# Altium integrated library DevBoard.IntLib: 15 symbols
Pins are listed as number, name and electrical type; pins without a type are passive.

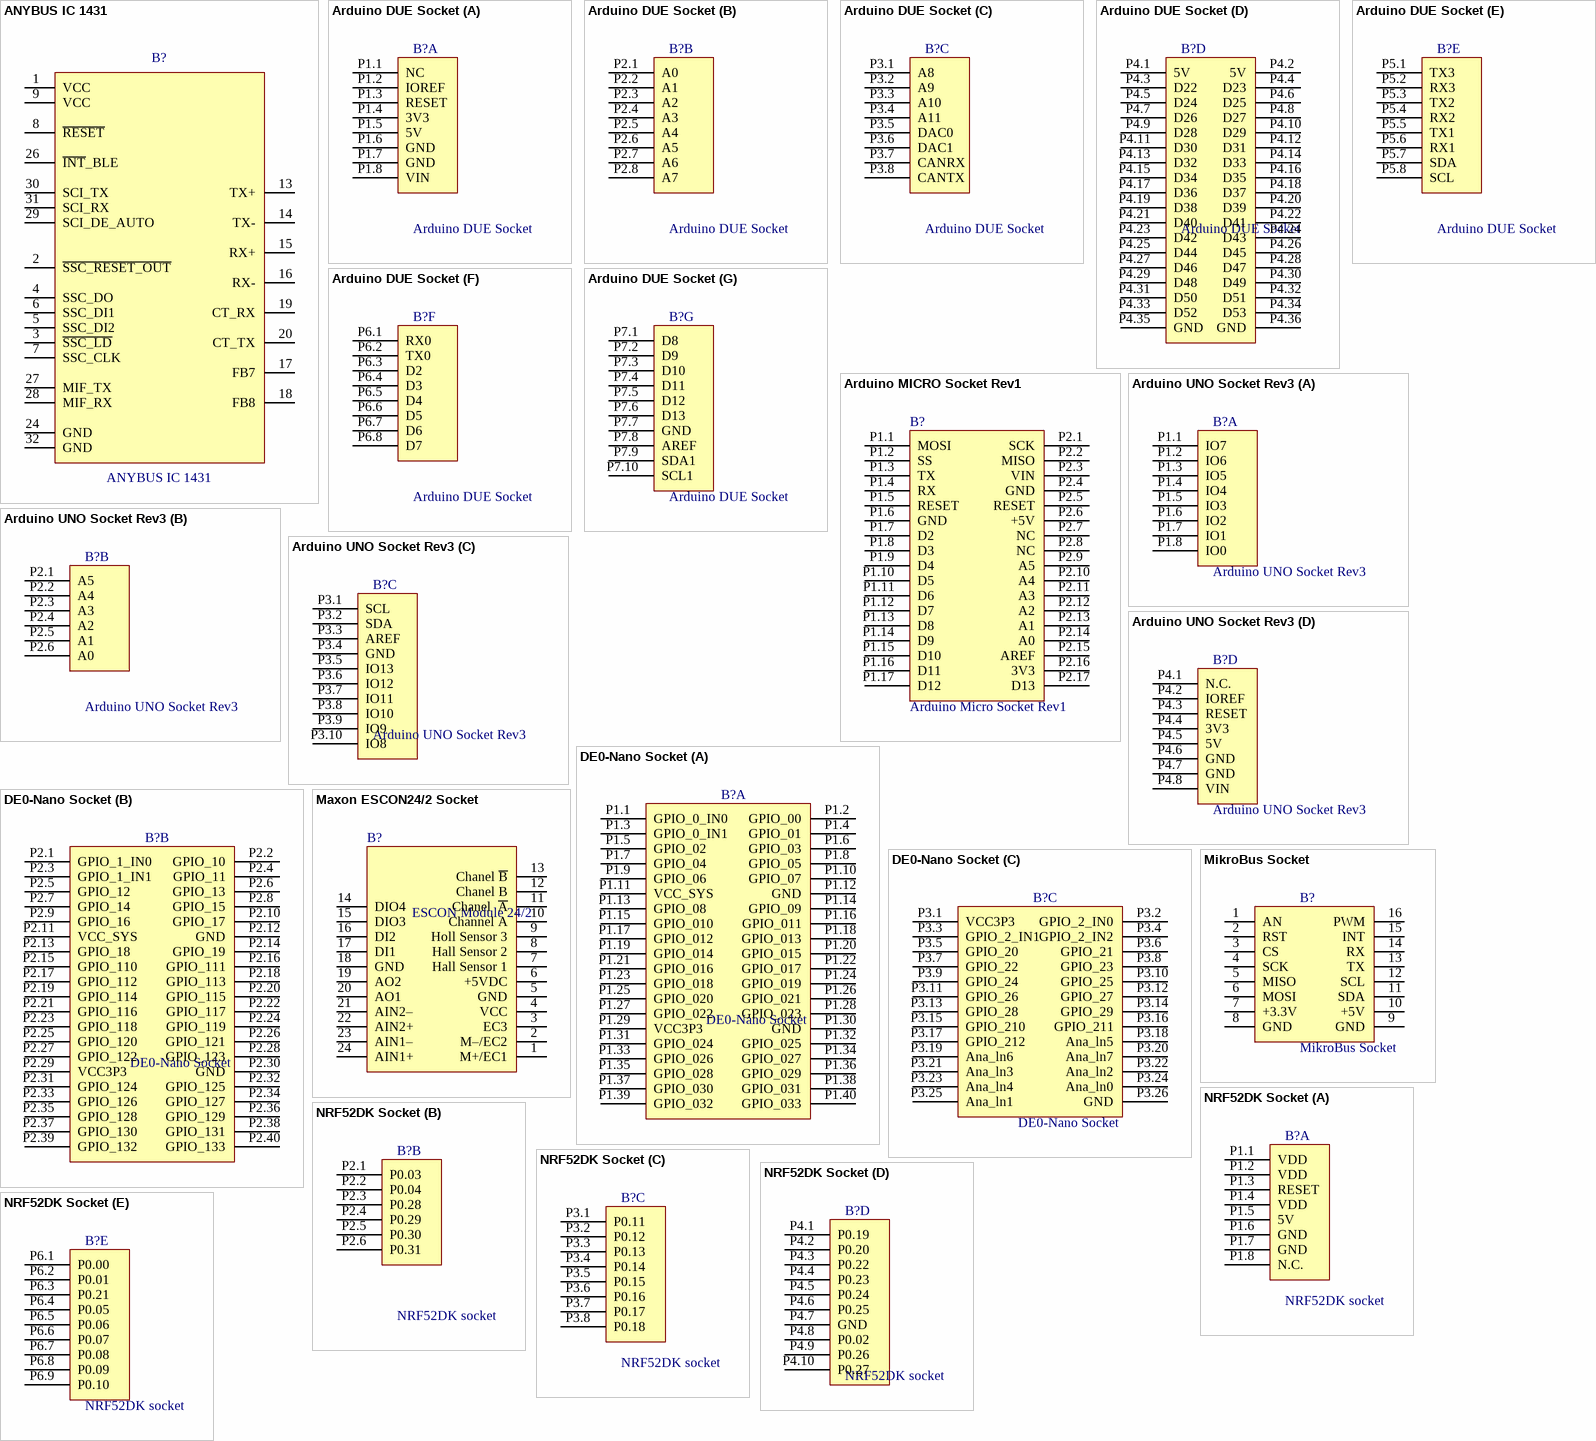
[diagram p0: symbols ANYBUS IC 1431 to NRF52DK Socket]

## ANYBUS IC 1431
designator B?
Quadrature Decoder/Counter interface ICs - Agilent Technologies; Value: ANYBUS IC 1431
footprint ANYBUS IC 1431
pins: 1 VCC, 2 ~{SSC_RESET_OUT}, 3 ~{SSC_LD}, 4 SSC_DO, 5 SSC_DI2, 6 SSC_DI1, 7 SSC_CLK, 8 ~{RESET}, 9 VCC, 10 hidden, 11 hidden, 12 hidden, 13 TX+, 14 TX-, 15 RX+, 16 RX-, 17 FB7, 18 FB8, 19 CT_RX, 20 CT_TX, 21 hidden, 22 hidden, 23 hidden, 24 GND, 25 hidden, 26 ~{INT}_BLE, 27 MIF_TX, 28 MIF_RX, 29 SCI_DE_AUTO, 30 SCI_TX, 31 SCI_RX, 32 GND

## Arduino DUE Socket
designator B?
Microcontroller board based on the Atmel SAM3X8E ARM Cortex-M3 CPU; Value: Arduino DUE Socket
footprint Arduino DUE Socket (Microcontroller board based on the ATmega328 Rev3)
part A pins: P1.1 NC, P1.2 IOREF, P1.3 RESET, P1.4 3V3, P1.5 5V, P1.6 GND, P1.7 GND, P1.8 VIN
part B pins: P2.1 A0, P2.2 A1, P2.3 A2, P2.4 A3, P2.5 A4, P2.6 A5, P2.7 A6, P2.8 A7
part C pins: P3.1 A8, P3.2 A9, P3.3 A10, P3.4 A11, P3.5 DAC0, P3.6 DAC1, P3.7 CANRX, P3.8 CANTX
part D pins: P4.1 5V, P4.2 5V, P4.3 D22, P4.4 D23, P4.5 D24, P4.6 D25, P4.7 D26, P4.8 D27, P4.9 D28, P4.10 D29, P4.11 D30, P4.12 D31, P4.13 D32, P4.14 D33, P4.15 D34, P4.16 D35, P4.17 D36, P4.18 D37, P4.19 D38, P4.20 D39, P4.21 D40, P4.22 D41, P4.23 D42, P4.24 D43, P4.25 D44, P4.26 D45, P4.27 D46, P4.28 D47, P4.29 D48, P4.30 D49, P4.31 D50, P4.32 D51, P4.33 D52, P4.34 D53, P4.35 GND, P4.36 GND
part E pins: P5.1 TX3, P5.2 RX3, P5.3 TX2, P5.4 RX2, P5.5 TX1, P5.6 RX1, P5.7 SDA, P5.8 SCL
part F pins: P6.1 RX0, P6.2 TX0, P6.3 D2, P6.4 D3, P6.5 D4, P6.6 D5, P6.7 D6, P6.8 D7
part G pins: P7.1 D8, P7.2 D9, P7.3 D10, P7.4 D11, P7.5 D12, P7.6 D13, P7.7 GND, P7.8 AREF, P7.9 SDA1, P7.10 SCL1

## Arduino MICRO Socket Rev1
designator B?, comment Arduino Micro Socket Rev1
Microcontroller board based on the ATmega32U4; Value: Arduino Micro Socket Rev1
footprint Arduino Micro Socket Rev3 (Microcontroller board based on the ATmega32U4)
pins: P1.1 MOSI, P1.2 SS, P1.3 TX, P1.4 RX, P1.5 RESET, P1.6 GND, P1.7 D2, P1.8 D3, P1.9 D4, P1.10 D5, P1.11 D6, P1.12 D7, P1.13 D8, P1.14 D9, P1.15 D10, P1.16 D11, P1.17 D12, P2.1 SCK, P2.2 MISO, P2.3 VIN, P2.4 GND, P2.5 RESET, P2.6 +5V, P2.7 NC, P2.8 NC, P2.9 A5, P2.10 A4, P2.11 A3, P2.12 A2, P2.13 A1, P2.14 A0, P2.15 AREF, P2.16 3V3, P2.17 D13

## Arduino UNO Socket Rev3
designator B?
Microcontroller board based on the ATmega328P Rev3; Value: Arduino UNO Socket Rev3
footprint Arduino Uno Socket Rev3 (Microcontroller board based on the ATmega328 Rev3)
part A pins: P1.1 IO7, P1.2 IO6, P1.3 IO5, P1.4 IO4, P1.5 IO3, P1.6 IO2, P1.7 IO1, P1.8 IO0
part B pins: P2.1 A5, P2.2 A4, P2.3 A3, P2.4 A2, P2.5 A1, P2.6 A0
part C pins: P3.1 SCL, P3.2 SDA, P3.3 AREF, P3.4 GND, P3.5 IO13, P3.6 IO12, P3.7 IO11, P3.8 IO10, P3.9 IO9, P3.10 IO8
part D pins: P4.1 N.C., P4.2 IOREF, P4.3 RESET, P4.4 3V3, P4.5 5V, P4.6 GND, P4.7 GND, P4.8 VIN

## DE0-Nano Socket
designator B?
Compact-sized FPGA development platform; Value: DE0-Nano Socket
footprint DE0-Nano Socket (DE0-Nano development kit)
part A pins: P1.1 GPIO_0_IN0, P1.2 GPIO_00, P1.3 GPIO_0_IN1, P1.4 GPIO_01, P1.5 GPIO_02, P1.6 GPIO_03, P1.7 GPIO_04, P1.8 GPIO_05, P1.9 GPIO_06, P1.10 GPIO_07, P1.11 VCC_SYS, P1.12 GND, P1.13 GPIO_08, P1.14 GPIO_09, P1.15 GPIO_010, P1.16 GPIO_011, P1.17 GPIO_012, P1.18 GPIO_013, P1.19 GPIO_014, P1.20 GPIO_015, P1.21 GPIO_016, P1.22 GPIO_017, P1.23 GPIO_018, P1.24 GPIO_019, P1.25 GPIO_020, P1.26 GPIO_021, P1.27 GPIO_022, P1.28 GPIO_023, P1.29 VCC3P3, P1.30 GND, P1.31 GPIO_024, P1.32 GPIO_025, P1.33 GPIO_026, P1.34 GPIO_027, P1.35 GPIO_028, P1.36 GPIO_029, P1.37 GPIO_030, P1.38 GPIO_031, P1.39 GPIO_032, P1.40 GPIO_033
part B pins: P2.1 GPIO_1_IN0, P2.2 GPIO_10, P2.3 GPIO_1_IN1, P2.4 GPIO_11, P2.5 GPIO_12, P2.6 GPIO_13, P2.7 GPIO_14, P2.8 GPIO_15, P2.9 GPIO_16, P2.10 GPIO_17, P2.11 VCC_SYS, P2.12 GND, P2.13 GPIO_18, P2.14 GPIO_19, P2.15 GPIO_110, P2.16 GPIO_111, P2.17 GPIO_112, P2.18 GPIO_113, P2.19 GPIO_114, P2.20 GPIO_115, P2.21 GPIO_116, P2.22 GPIO_117, P2.23 GPIO_118, P2.24 GPIO_119, P2.25 GPIO_120, P2.26 GPIO_121, P2.27 GPIO_122, P2.28 GPIO_123, P2.29 VCC3P3, P2.30 GND, P2.31 GPIO_124, P2.32 GPIO_125, P2.33 GPIO_126, P2.34 GPIO_127, P2.35 GPIO_128, P2.36 GPIO_129, P2.37 GPIO_130, P2.38 GPIO_131, P2.39 GPIO_132, P2.40 GPIO_133
part C pins: P3.1 VCC3P3, P3.2 GPIO_2_IN0, P3.3 GPIO_2_IN1, P3.4 GPIO_2_IN2, P3.5 GPIO_20, P3.6 GPIO_21, P3.7 GPIO_22, P3.8 GPIO_23, P3.9 GPIO_24, P3.10 GPIO_25, P3.11 GPIO_26, P3.12 GPIO_27, P3.13 GPIO_28, P3.14 GPIO_29, P3.15 GPIO_210, P3.16 GPIO_211, P3.17 GPIO_212, P3.18 Ana_ln5, P3.19 Ana_ln6, P3.20 Ana_ln7, P3.21 Ana_ln3, P3.22 Ana_ln2, P3.23 Ana_ln4, P3.24 Ana_ln0, P3.25 Ana_ln1, P3.26 GND

## Maxon ESCON24/2 Socket
designator B?, comment ESCON Module 24/2
ESCON Module 24/2 Servo Controlle rP/N 466023 Socket; Value: ESCON Module 24/2
footprint ESCON24/2 Socket
pins: 1 M+/EC1, 2 M–/EC2, 3 EC3, 4 VCC, 5 GND, 6 +5VDC, 7 Hall Sensor 1, 8 Hall Sensor 2, 9 Holl Sensor 3, 10 Channel A, 11 Chanel  ~{A}, 12 Chanel B, 13 Chanel ~{B}, 14 DIO4, 15 DIO3, 16 DI2, 17 DI1, 18 GND, 19 AO2, 20 AO1, 21 AIN2–, 22 AIN2+, 23 AIN1–, 24 AIN1+

## MikroBus Socket
designator B?
MikroBus Socket proprietary pin configuration and silkscreen markings; Value: MikroBus Socket
footprint MikroBus Socket
pins: 1 AN, 2 RST, 3 CS, 4 SCK, 5 MISO, 6 MOSI, 7 +3.3V, 8 GND, 9 GND, 10 +5V, 11 SDA, 12 SCL, 13 TX, 14 RX, 15 INT, 16 PWM

## NRF52DK Socket
designator B?, comment NRF52DK socket
nRF52 development kit; Value: NRF52DK socket
footprint NRF52DK Socket (nRF52 development kit)
part A pins: P1.1 VDD, P1.2 VDD, P1.3 RESET, P1.4 VDD, P1.5 5V, P1.6 GND, P1.7 GND, P1.8 N.C.
part B pins: P2.1 P0.03, P2.2 P0.04, P2.3 P0.28, P2.4 P0.29, P2.5 P0.30, P2.6 P0.31
part C pins: P3.1 P0.11, P3.2 P0.12, P3.3 P0.13, P3.4 P0.14, P3.5 P0.15, P3.6 P0.16, P3.7 P0.17, P3.8 P0.18
part D pins: P4.1 P0.19, P4.2 P0.20, P4.3 P0.22, P4.4 P0.23, P4.5 P0.24, P4.6 P0.25, P4.7 GND, P4.8 P0.02, P4.9 P0.26, P4.10 P0.27
part E pins: P6.1 P0.00, P6.2 P0.01, P6.3 P0.21, P6.4 P0.05, P6.5 P0.06, P6.6 P0.07, P6.7 P0.08, P6.8 P0.09, P6.9 P0.10

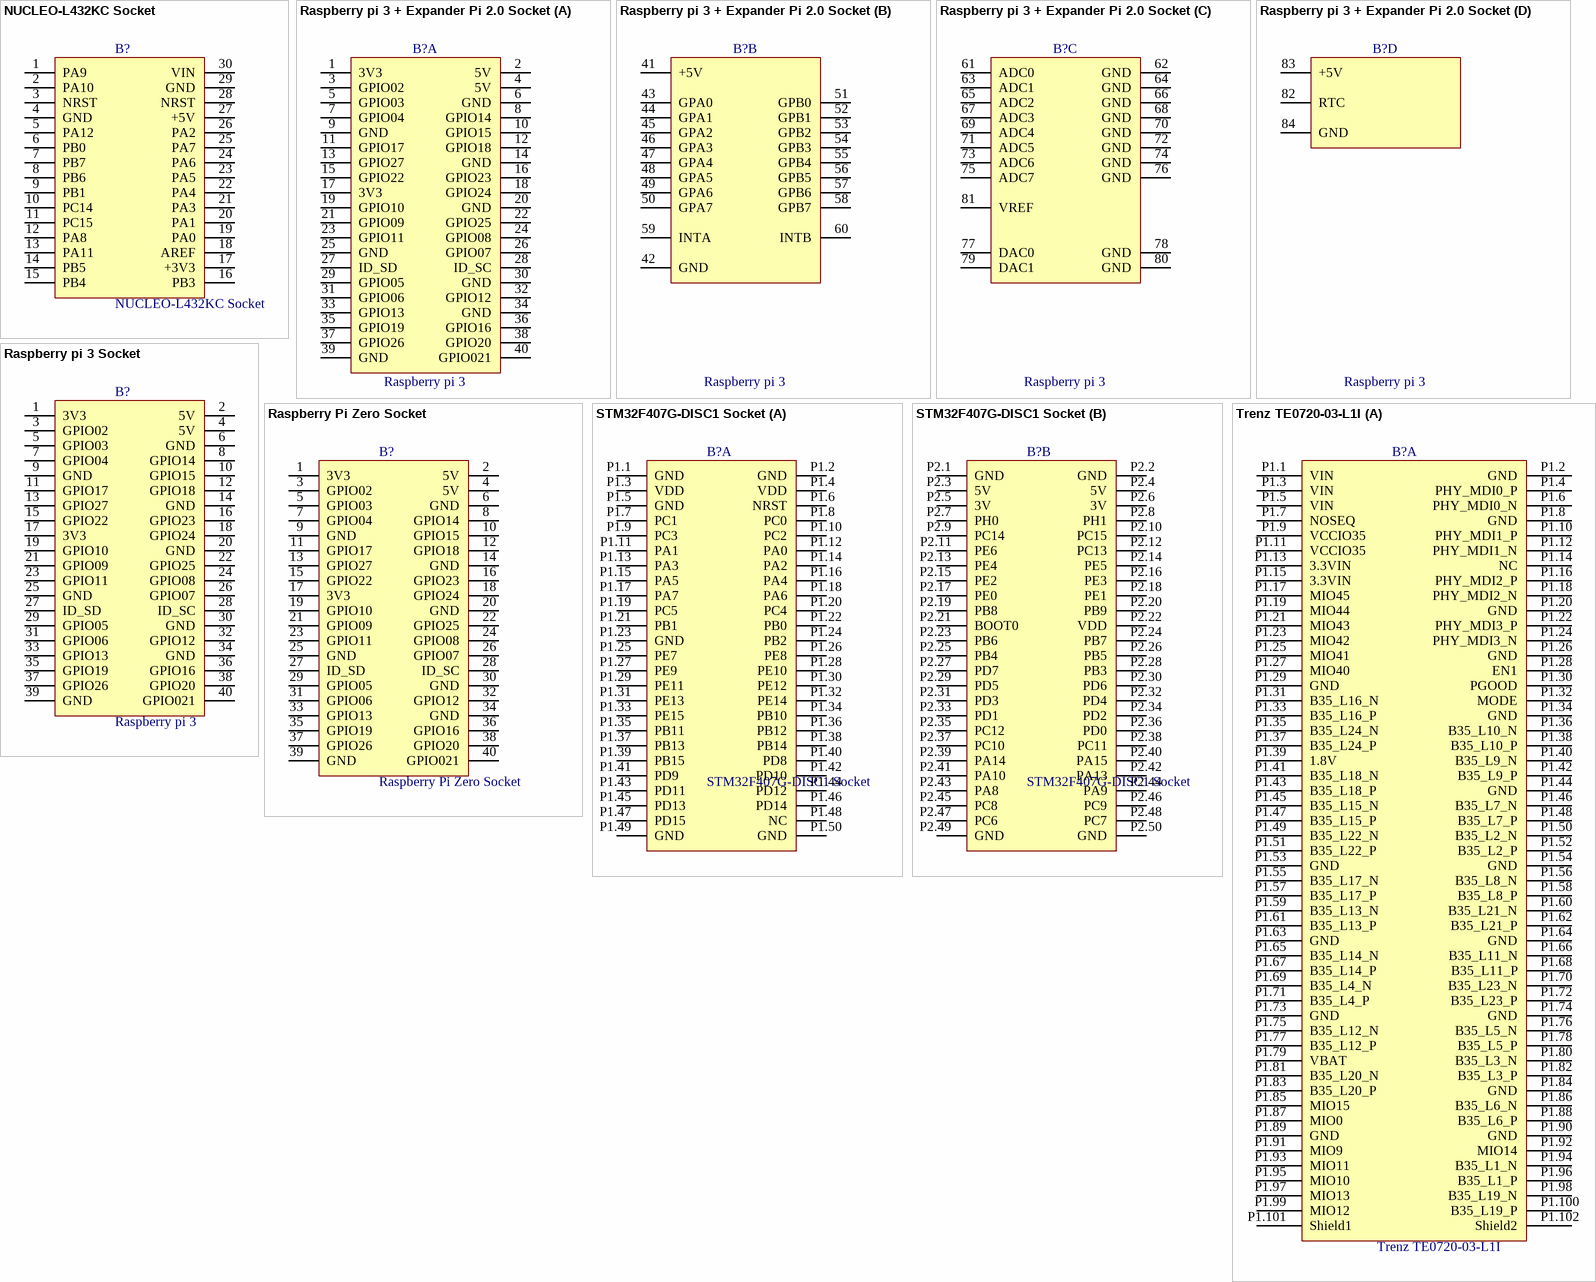
[diagram p1: symbols NUCLEO-L432KC Socket to Trenz TE0720-03-L1I]

## NUCLEO-L432KC Socket
designator B?
ARM Cortex based board; Value: NUCLEO-L432KC Socket
footprint NUCLEO-L432KC Socket (ARM Cortex based board)
pins: 1 PA9, 2 PA10, 3 NRST, 4 GND, 5 PA12, 6 PB0, 7 PB7, 8 PB6, 9 PB1, 10 PC14, 11 PC15, 12 PA8, 13 PA11, 14 PB5, 15 PB4, 16 PB3, 17 +3V3, 18 AREF, 19 PA0, 20 PA1, 21 PA3, 22 PA4, 23 PA5, 24 PA6, 25 PA7, 26 PA2, 27 +5V, 28 NRST, 29 GND, 30 VIN

## Raspberry pi 3 + Expander Pi 2.0 Socket
designator B?, comment Raspberry pi 3
Small computer with IO Expander; Value: Raspberry pi 3
footprint Raspberry pi 3 + Expander Pi 2.0 (Raspberry pi 3 + Expander Pi 2.0 development kit)
part A pins: 1 3V3, 2 5V, 3 GPIO02, 4 5V, 5 GPIO03, 6 GND, 7 GPIO04, 8 GPIO14, 9 GND, 10 GPIO15, 11 GPIO17, 12 GPIO18, 13 GPIO27, 14 GND, 15 GPIO22, 16 GPIO23, 17 3V3, 18 GPIO24, 19 GPIO10, 20 GND, 21 GPIO09, 22 GPIO25, 23 GPIO11, 24 GPIO08, 25 GND, 26 GPIO07, 27 ID_SD, 28 ID_SC, 29 GPIO05, 30 GND, 31 GPIO06, 32 GPIO12, 33 GPIO13, 34 GND, 35 GPIO19, 36 GPIO16, 37 GPIO26, 38 GPIO20, 39 GND, 40 GPIO021
part B pins: 41 +5V, 42 GND, 43 GPA0, 44 GPA1, 45 GPA2, 46 GPA3, 47 GPA4, 48 GPA5, 49 GPA6, 50 GPA7, 51 GPB0, 52 GPB1, 53 GPB2, 54 GPB3, 55 GPB4, 56 GPB5, 57 GPB6, 58 GPB7, 59 INTA, 60 INTB
part C pins: 61 ADC0, 62 GND, 63 ADC1, 64 GND, 65 ADC2, 66 GND, 67 ADC3, 68 GND, 69 ADC4, 70 GND, 71 ADC5, 72 GND, 73 ADC6, 74 GND, 75 ADC7, 76 GND, 77 DAC0, 78 GND, 79 DAC1, 80 GND, 81 VREF
part D pins: 82 RTC, 83 +5V, 84 GND

## Raspberry pi 3 Socket
designator B?, comment Raspberry pi 3
Small single-board computer; Value: Raspberry pi 3
footprint Raspberry pi 3 Socket (Raspberry pi 3 development kit)
pins: 1 3V3, 2 5V, 3 GPIO02, 4 5V, 5 GPIO03, 6 GND, 7 GPIO04, 8 GPIO14, 9 GND, 10 GPIO15, 11 GPIO17, 12 GPIO18, 13 GPIO27, 14 GND, 15 GPIO22, 16 GPIO23, 17 3V3, 18 GPIO24, 19 GPIO10, 20 GND, 21 GPIO09, 22 GPIO25, 23 GPIO11, 24 GPIO08, 25 GND, 26 GPIO07, 27 ID_SD, 28 ID_SC, 29 GPIO05, 30 GND, 31 GPIO06, 32 GPIO12, 33 GPIO13, 34 GND, 35 GPIO19, 36 GPIO16, 37 GPIO26, 38 GPIO20, 39 GND, 40 GPIO021

## Raspberry Pi Zero Socket
designator B?
Small single-board computer; Value: Raspberry Pi Zero Socket
footprint Raspberry Pi Zero Socket
footprint Raspberry Pi Zero Socket SMD (Raspberry Pi Zero Socket)
pins: 1 3V3, 2 5V, 3 GPIO02, 4 5V, 5 GPIO03, 6 GND, 7 GPIO04, 8 GPIO14, 9 GND, 10 GPIO15, 11 GPIO17, 12 GPIO18, 13 GPIO27, 14 GND, 15 GPIO22, 16 GPIO23, 17 3V3, 18 GPIO24, 19 GPIO10, 20 GND, 21 GPIO09, 22 GPIO25, 23 GPIO11, 24 GPIO08, 25 GND, 26 GPIO07, 27 ID_SD, 28 ID_SC, 29 GPIO05, 30 GND, 31 GPIO06, 32 GPIO12, 33 GPIO13, 34 GND, 35 GPIO19, 36 GPIO16, 37 GPIO26, 38 GPIO20, 39 GND, 40 GPIO021

## STM32F407G-DISC1 Socket
designator B?
Discovery kit with STM32F407VG MCU; Value: STM32F407G-DISC1 Socket
footprint STM32F407G-DISC1 Socket (Discovery kit with STM32F407VG MCU)
part A pins: P1.1 GND, P1.2 GND, P1.3 VDD, P1.4 VDD, P1.5 GND, P1.6 NRST, P1.7 PC1, P1.8 PC0, P1.9 PC3, P1.10 PC2, P1.11 PA1, P1.12 PA0, P1.13 PA3, P1.14 PA2, P1.15 PA5, P1.16 PA4, P1.17 PA7, P1.18 PA6, P1.19 PC5, P1.20 PC4, P1.21 PB1, P1.22 PB0, P1.23 GND, P1.24 PB2, P1.25 PE7, P1.26 PE8, P1.27 PE9, P1.28 PE10, P1.29 PE11, P1.30 PE12, P1.31 PE13, P1.32 PE14, P1.33 PE15, P1.34 PB10, P1.35 PB11, P1.36 PB12, P1.37 PB13, P1.38 PB14, P1.39 PB15, P1.40 PD8, P1.41 PD9, P1.42 PD10, P1.43 PD11, P1.44 PD12, P1.45 PD13, P1.46 PD14, P1.47 PD15, P1.48 NC, P1.49 GND, P1.50 GND
part B pins: P2.1 GND, P2.2 GND, P2.3 5V, P2.4 5V, P2.5 3V, P2.6 3V, P2.7 PH0, P2.8 PH1, P2.9 PC14, P2.10 PC15, P2.11 PE6, P2.12 PC13, P2.13 PE4, P2.14 PE5, P2.15 PE2, P2.16 PE3, P2.17 PE0, P2.18 PE1, P2.19 PB8, P2.20 PB9, P2.21 BOOT0, P2.22 VDD, P2.23 PB6, P2.24 PB7, P2.25 PB4, P2.26 PB5, P2.27 PD7, P2.28 PB3, P2.29 PD5, P2.30 PD6, P2.31 PD3, P2.32 PD4, P2.33 PD1, P2.34 PD2, P2.35 PC12, P2.36 PD0, P2.37 PC10, P2.38 PC11, P2.39 PA14, P2.40 PA15, P2.41 PA10, P2.42 PA13, P2.43 PA8, P2.44 PA9, P2.45 PC8, P2.46 PC9, P2.47 PC6, P2.48 PC7, P2.49 GND, P2.50 GND

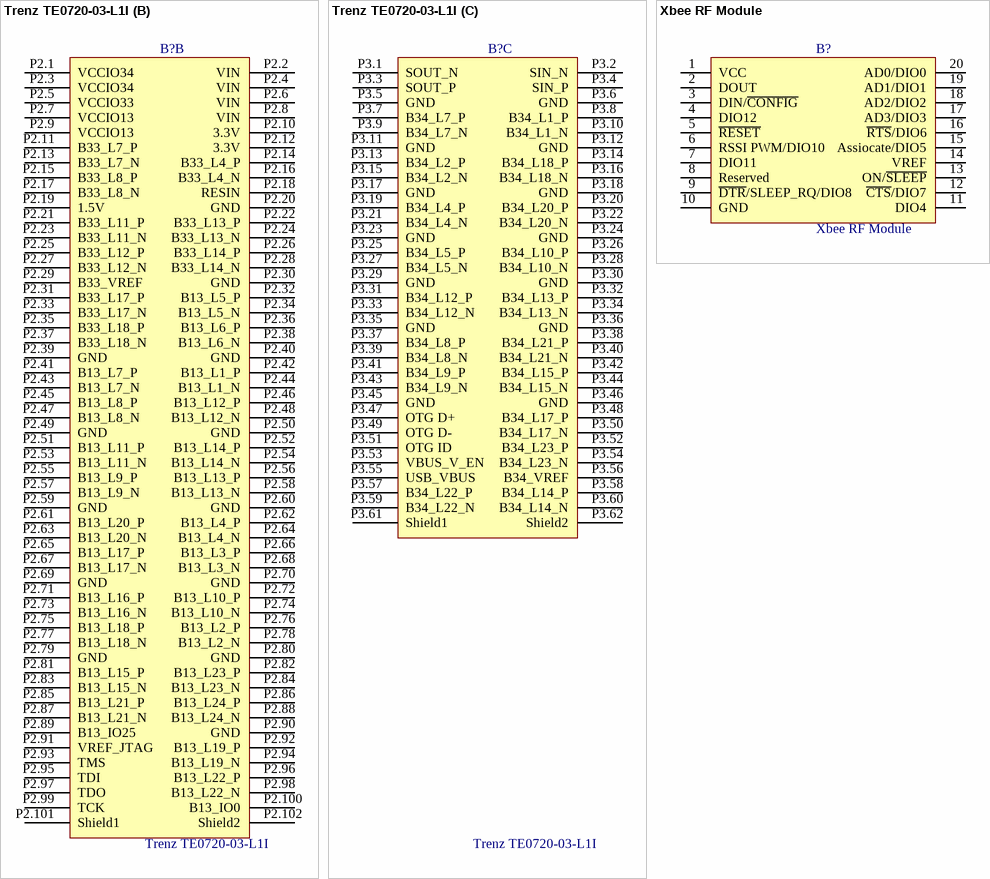
[diagram p2: symbols Trenz TE0720-03-L1I to Xbee RF Module]

## Trenz TE0720-03-L1I
designator B?
Zynq-7020 SoC Module with XC7Z020-L1CLG484I; Value: Trenz TE0720-03-L1I
footprint Trenz TE0720-03-L1I Socket (Zynq-7020 SoC Module with XC7Z020-L1CLG484I)
part A pins: P1.1 VIN, P1.2 GND, P1.3 VIN, P1.4 PHY_MDI0_P, P1.5 VIN, P1.6 PHY_MDI0_N, P1.7 NOSEQ, P1.8 GND, P1.9 VCCIO35, P1.10 PHY_MDI1_P, P1.11 VCCIO35, P1.12 PHY_MDI1_N, P1.13 3.3VIN, P1.14 NC, P1.15 3.3VIN, P1.16 PHY_MDI2_P, P1.17 MIO45, P1.18 PHY_MDI2_N, P1.19 MIO44, P1.20 GND, P1.21 MIO43, P1.22 PHY_MDI3_P, P1.23 MIO42, P1.24 PHY_MDI3_N, P1.25 MIO41, P1.26 GND, P1.27 MIO40, P1.28 EN1, P1.29 GND, P1.30 PGOOD, P1.31 B35_L16_N, P1.32 MODE, P1.33 B35_L16_P, P1.34 GND, P1.35 B35_L24_N, P1.36 B35_L10_N, P1.37 B35_L24_P, P1.38 B35_L10_P, P1.39 1.8V, P1.40 B35_L9_N, P1.41 B35_L18_N, P1.42 B35_L9_P, P1.43 B35_L18_P, P1.44 GND, P1.45 B35_L15_N, P1.46 B35_L7_N, P1.47 B35_L15_P, P1.48 B35_L7_P, P1.49 B35_L22_N, P1.50 B35_L2_N, P1.51 B35_L22_P, P1.52 B35_L2_P, P1.53 GND, P1.54 GND, P1.55 B35_L17_N, P1.56 B35_L8_N, P1.57 B35_L17_P, P1.58 B35_L8_P, P1.59 B35_L13_N, P1.60 B35_L21_N, P1.61 B35_L13_P, P1.62 B35_L21_P, P1.63 GND, P1.64 GND, P1.65 B35_L14_N, P1.66 B35_L11_N, P1.67 B35_L14_P, P1.68 B35_L11_P, P1.69 B35_L4_N, P1.70 B35_L23_N, P1.71 B35_L4_P, P1.72 B35_L23_P, P1.73 GND, P1.74 GND, P1.75 B35_L12_N, P1.76 B35_L5_N, P1.77 B35_L12_P, P1.78 B35_L5_P, P1.79 VBAT, P1.80 B35_L3_N, P1.81 B35_L20_N, P1.82 B35_L3_P, P1.83 B35_L20_P, P1.84 GND, P1.85 MIO15, P1.86 B35_L6_N, P1.87 MIO0, P1.88 B35_L6_P, P1.89 GND, P1.90 GND, P1.91 MIO9, P1.92 MIO14, P1.93 MIO11, P1.94 B35_L1_N, P1.95 MIO10, P1.96 B35_L1_P, P1.97 MIO13, P1.98 B35_L19_N, P1.99 MIO12, P1.100 B35_L19_P, P1.101 Shield1, P1.102 Shield2
part B pins: P2.1 VCCIO34, P2.2 VIN, P2.3 VCCIO34, P2.4 VIN, P2.5 VCCIO33, P2.6 VIN, P2.7 VCCIO13, P2.8 VIN, P2.9 VCCIO13, P2.10 3.3V, P2.11 B33_L7_P, P2.12 3.3V, P2.13 B33_L7_N, P2.14 B33_L4_P, P2.15 B33_L8_P, P2.16 B33_L4_N, P2.17 B33_L8_N, P2.18 RESIN, P2.19 1.5V, P2.20 GND, P2.21 B33_L11_P, P2.22 B33_L13_P, P2.23 B33_L11_N, P2.24 B33_L13_N, P2.25 B33_L12_P, P2.26 B33_L14_P, P2.27 B33_L12_N, P2.28 B33_L14_N, P2.29 B33_VREF, P2.30 GND, P2.31 B33_L17_P, P2.32 B13_L5_P, P2.33 B33_L17_N, P2.34 B13_L5_N, P2.35 B33_L18_P, P2.36 B13_L6_P, P2.37 B33_L18_N, P2.38 B13_L6_N, P2.39 GND, P2.40 GND, P2.41 B13_L7_P, P2.42 B13_L1_P, P2.43 B13_L7_N, P2.44 B13_L1_N, P2.45 B13_L8_P, P2.46 B13_L12_P, P2.47 B13_L8_N, P2.48 B13_L12_N, P2.49 GND, P2.50 GND, P2.51 B13_L11_P, P2.52 B13_L14_P, P2.53 B13_L11_N, P2.54 B13_L14_N, P2.55 B13_L9_P, P2.56 B13_L13_P, P2.57 B13_L9_N, P2.58 B13_L13_N, P2.59 GND, P2.60 GND, P2.61 B13_L20_P, P2.62 B13_L4_P, P2.63 B13_L20_N, P2.64 B13_L4_N, P2.65 B13_L17_P, P2.66 B13_L3_P, P2.67 B13_L17_N, P2.68 B13_L3_N, P2.69 GND, P2.70 GND, P2.71 B13_L16_P, P2.72 B13_L10_P, P2.73 B13_L16_N, P2.74 B13_L10_N, P2.75 B13_L18_P, P2.76 B13_L2_P, P2.77 B13_L18_N, P2.78 B13_L2_N, P2.79 GND, P2.80 GND, P2.81 B13_L15_P, P2.82 B13_L23_P, P2.83 B13_L15_N, P2.84 B13_L23_N, P2.85 B13_L21_P, P2.86 B13_L24_P, P2.87 B13_L21_N, P2.88 B13_L24_N, P2.89 B13_IO25, P2.90 GND, P2.91 VREF_JTAG, P2.92 B13_L19_P, P2.93 TMS, P2.94 B13_L19_N, P2.95 TDI, P2.96 B13_L22_P, P2.97 TDO, P2.98 B13_L22_N, P2.99 TCK, P2.100 B13_IO0, P2.101 Shield1, P2.102 Shield2
part C pins: P3.1 SOUT_N, P3.2 SIN_N, P3.3 SOUT_P, P3.4 SIN_P, P3.5 GND, P3.6 GND, P3.7 B34_L7_P, P3.8 B34_L1_P, P3.9 B34_L7_N, P3.10 B34_L1_N, P3.11 GND, P3.12 GND, P3.13 B34_L2_P, P3.14 B34_L18_P, P3.15 B34_L2_N, P3.16 B34_L18_N, P3.17 GND, P3.18 GND, P3.19 B34_L4_P, P3.20 B34_L20_P, P3.21 B34_L4_N, P3.22 B34_L20_N, P3.23 GND, P3.24 GND, P3.25 B34_L5_P, P3.26 B34_L10_P, P3.27 B34_L5_N, P3.28 B34_L10_N, P3.29 GND, P3.30 GND, P3.31 B34_L12_P, P3.32 B34_L13_P, P3.33 B34_L12_N, P3.34 B34_L13_N, P3.35 GND, P3.36 GND, P3.37 B34_L8_P, P3.38 B34_L21_P, P3.39 B34_L8_N, P3.40 B34_L21_N, P3.41 B34_L9_P, P3.42 B34_L15_P, P3.43 B34_L9_N, P3.44 B34_L15_N, P3.45 GND, P3.46 GND, P3.47 OTG D+, P3.48 B34_L17_P, P3.49 OTG D-, P3.50 B34_L17_N, P3.51 OTG ID, P3.52 B34_L23_P, P3.53 VBUS_V_EN, P3.54 B34_L23_N, P3.55 USB_VBUS, P3.56 B34_VREF, P3.57 B34_L22_P, P3.58 B34_L14_P, P3.59 B34_L22_N, P3.60 B34_L14_N, P3.61 Shield1, P3.62 Shield2

## Xbee RF Module
designator B?
2.4 GHZ MODULES  Easy-to-use, pre-certified RF embedded; Value: Xbee RF Module
footprint Xbee RF Module (2.4 GHZ MODULES  Easy-to-use, pre-certified RF embedded)
pins: 1 VCC, 2 DOUT, 3 DIN/~{CONFIG}, 4 DIO12, 5 ~{RESET}, 6 RSSI PWM/DIO10, 7 DIO11, 8 Reserved, 9 ~{DTR}/SLEEP_RQ/DIO8, 10 GND, 11 DIO4, 12 ~{CTS}/DIO7, 13 ON/~{SLEEP}, 14 VREF, 15 Assiocate/DIO5, 16 ~{RTS}/DIO6, 17 AD3/DIO3, 18 AD2/DIO2, 19 AD1/DIO1, 20 AD0/DIO0